# EAGLE library part ADM7150 (library analog-devices)
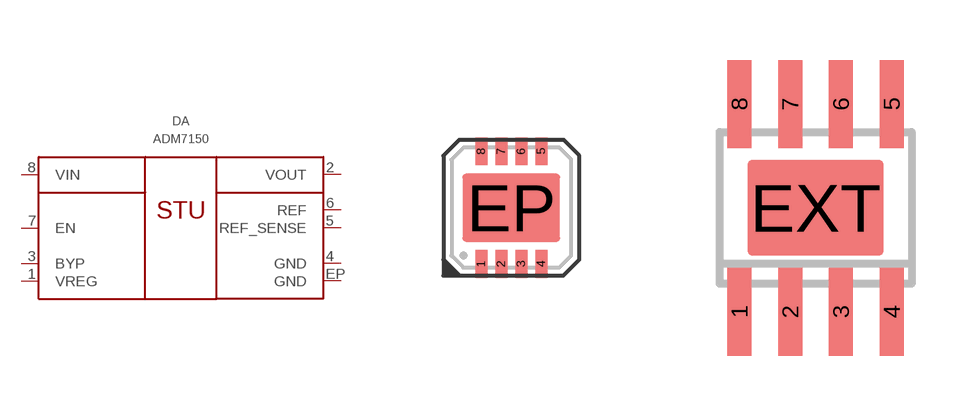
[diagram p7: symbol with the pads of LFCSP-8; footprints LFCSP-8, SO08_EP]

Designator prefix DA

## ADM7150ACPZ-1.8-R7  [LFCSP-8]
1  VREG  in
2  VOUT  pwr
3  BYP  in
4  GND  pwr
5  REF_SENSE  in
6  REF  in
7  EN  in
8  VIN  pwr
EP  GND  pwr

## ADM7150ACPZ-3.3-R7  [LFCSP-8]
Pads as for LFCSP-8

## ADM7150ACPZ-4.5-R7  [LFCSP-8]
Pads as for LFCSP-8

## ADM7150ACPZ-4.8-R7  [LFCSP-8]
Pads as for LFCSP-8

## ADM7150ACPZ-5.0-R7  [LFCSP-8]
Pads as for LFCSP-8

## ADM7150ARDZ-1.8  [SO08_EP]
1  VREG  in
2  VOUT  pwr
3  BYP  in
4  GND  pwr
5  REF_SENSE  in
6  REF  in
7  EN  in
8  VIN  pwr
EXT  GND  pwr

## ADM7150ARDZ-3.0  [SO08_EP]
Pads as for SO08_EP

## ADM7150ARDZ-2.8  [SO08_EP]
Pads as for SO08_EP

## ADM7150ARDZ-3.3  [SO08_EP]
Pads as for SO08_EP

## ADM7150ARDZ-5.0  [SO08_EP]
Pads as for SO08_EP

## ADM7150ARDZ-3.0-R7  [SO08_EP]
Pads as for SO08_EP

## ADM7150ARDZ-3.3-R7  [SO08_EP]
Pads as for SO08_EP

## ADM7150ARDZ-5.0-R7  [SO08_EP]
Pads as for SO08_EP

## Footprint LFCSP-8 (pad centres in mm)
smd 0.3 x 0.7: 1 -0.75,-1.41; 2 -0.25,-1.41; 3 0.25,-1.41; 4 0.75,-1.41; 5 0.75,1.41; 6 0.25,1.41; 7 -0.25,1.41; 8 -0.75,1.41
smd 2.44 x 1.7: EP 0,0

## Footprint SO08_EP (pad centres in mm)
SMALL OUTLINE INTEGRATED CIRCUIT body 3.9 mm/JEDEC MS-012AA
smd 0.6 x 2.2: 1 -1.905,-2.6; 2 -0.635,-2.6; 3 0.635,-2.6; 4 1.905,-2.6; 5 1.905,2.6; 6 0.635,2.6; 7 -0.635,2.6; 8 -1.905,2.6
smd 3.4 x 2.4: EXT 0,0